# Altium footprint library B250S15A-DIO.PcbLib: 1 footprints
Each footprint in its own frame and in the unit in brackets; x right, y up, seen from the top. Pads: shape width x height; smd on the part's side, far side on the other; paste and mask are expansions set on the pad; w line width, h text height; cw(c..) or ccw(c..) is an arc to the next point about the centre after c.
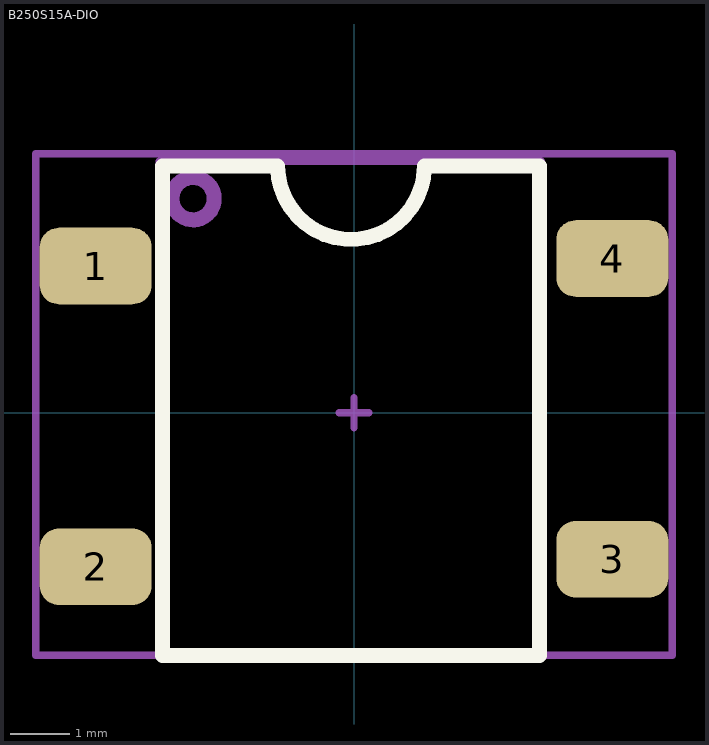
[diagram p0: the footprint, top view; thin cyan lines are the x and y axes]

## B250S15A-DIO [mm] "Diode bridge SMD"
pads (4):
  rrect50% 1.9x1.3 smd: 1(-4.381,2.486) 2(-4.381,-2.613) 3(4.381,-2.486) 4(4.381,2.613)
Top Overlay:
  lines w0.254: -3.25,-4.118 3.15,-4.118 3.15,4.183 1.195,4.183 cw(c-0.05,4.183) -1.295,4.183 -3.25,4.183 -3.25,-4.118
Mechanical 13:
  circle w0.254: c-2.73,3.629 r0.359
  lines w0.127: -3.302,-4.118 3.175,-4.118 3.175,4.264 -3.302,4.264 -3.302,-4.118
Mechanical 15:
  lines w0.127: -0.254,0 0.254,0 ; 0,-0.254 0,0.254 ; -5.397,-4.118 5.397,-4.118 5.397,4.391 -5.397,4.391 -5.397,-4.118
Mechanical 17:
  text "'.Designator'" at -3.429,-3.81 h0.38
Mechanical 19:
  text "'.Comment'" at -3.429,-3.81 h0.38
3D body "User Library-SDIP-1.step": height 2.93, standoff 0, extent -4.859,-4.185 5.141,4.315